# Altium schematic symbol library SI2312-TP.SchLib: 1 symbol
Pins are listed as number, name and electrical type; pins without a type are passive.

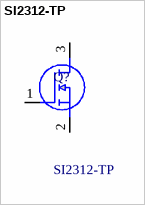
[diagram p0: symbol SI2312-TP]

## SI2312-TP
designator Q?
Small Signal MOSFETS; Manufacturer_Name: MCC; Geometry.Height: 1.25mm; Mouser Part Number: 833-SI2312-TP; Mouser Price/Stock: https://www.mouser.co.uk/ProductDetail/Micro-Commercial-Components-MCC/SI2312-TP?qs=MoCBKJu1Jj1t1%2FytLtzFIw%3D%3D; Manufacturer_Part_Number: SI2312-TP; Datasheet Link: https://www.mccsemi.com/pdf/Products/SI2312(SOT-23).pdf
footprint SOT95P237X125-3N
pins: 1 G, 2 S, 3 D